# Altium footprint library Transistors.PcbLib: 20 footprints (part 1 of 2)
Each footprint in its own frame and in the unit in brackets; x right, y up, seen from the top. Pads: shape width x height; smd on the part's side, far side on the other; paste and mask are expansions set on the pad; w line width, h text height; cw(c..) or ccw(c..) is an arc to the next point about the centre after c.
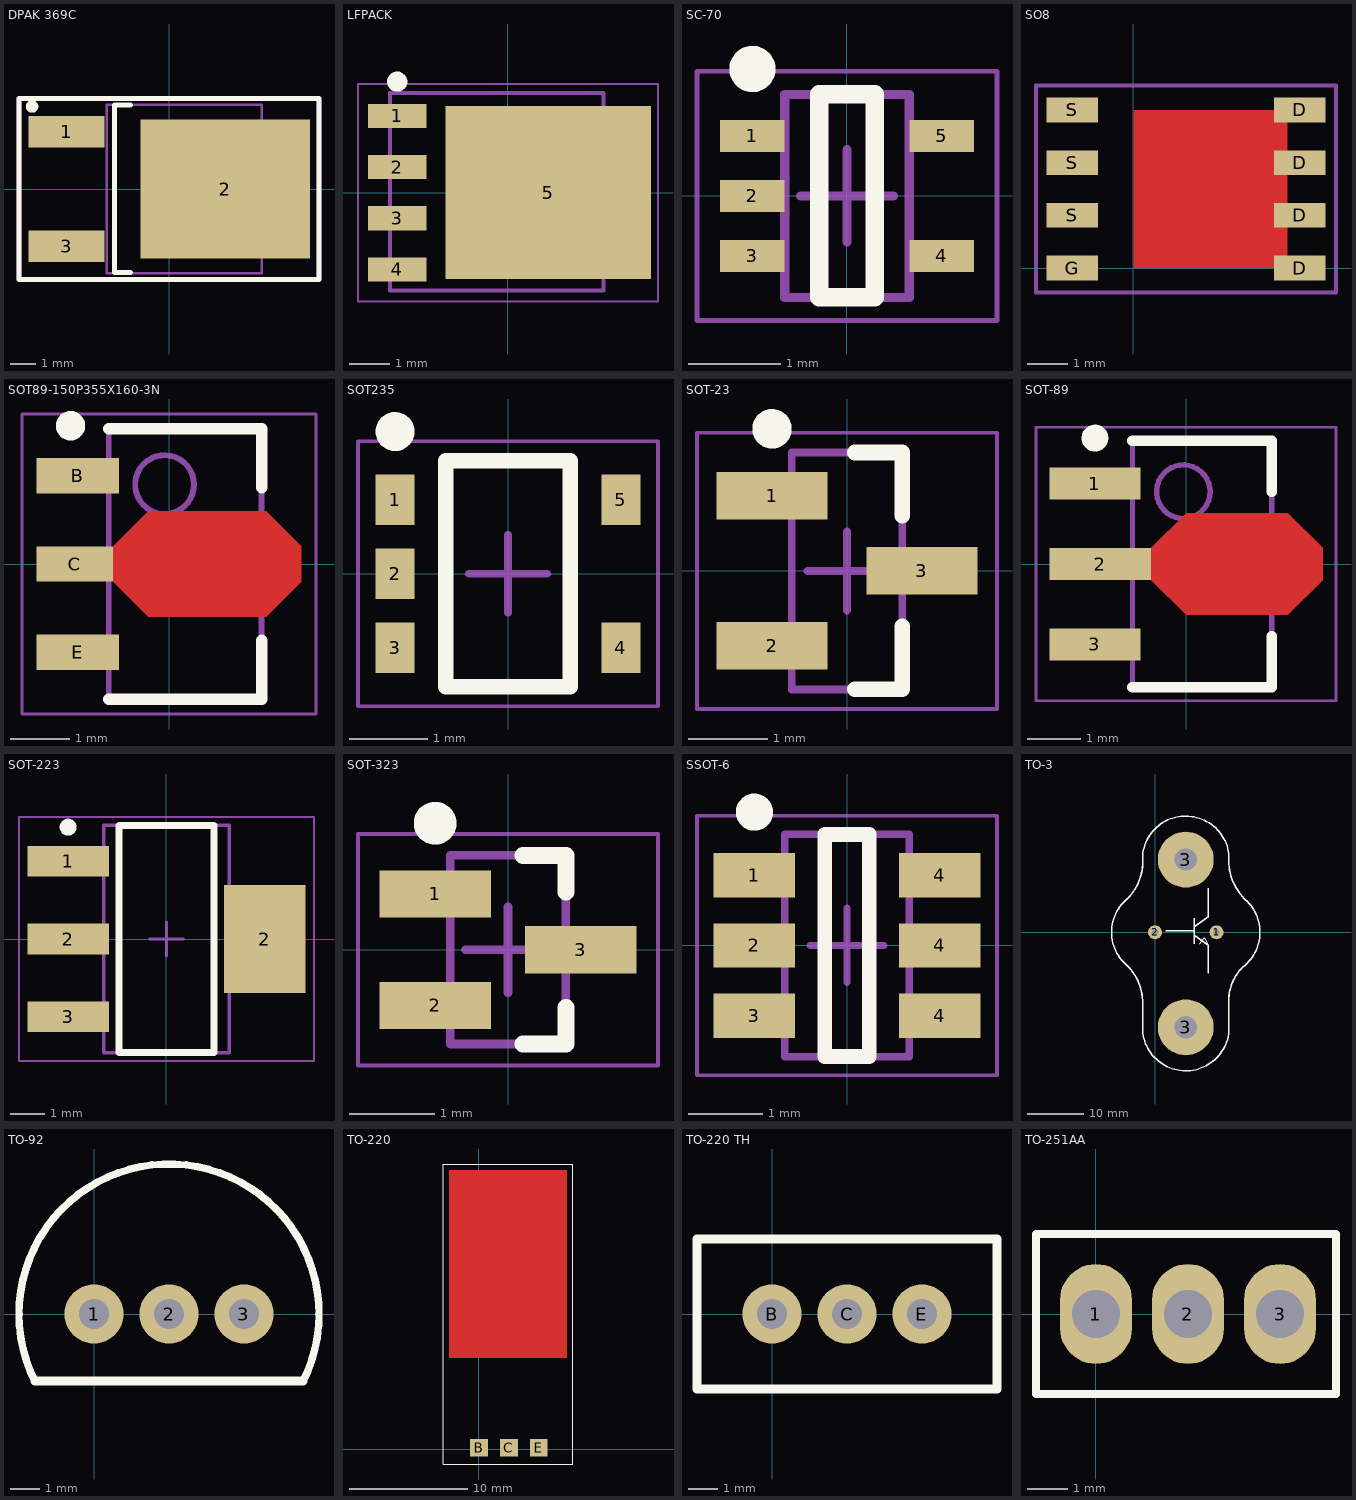
[diagram p0: the footprints below, top view; thin cyan lines are the x and y axes]

## DPAK 369C [mm] "D-PAK, 3-Pads, Body 6,21x6,73mm (max), IPC Medium Density"
height 2.38
pads (3):
  rect 3.05x1.25 smd: 1(-4.1,2.29) 3(-4.1,-2.29)
  rect 6.8x5.55 smd: 2(2.25,0)
Top Overlay:
  circle w0.25: c-5.475,3.3 r0.125
  lines w0.2: -1.55,-3.35 -2.175,-3.35 -2.175,3.35 -1.55,3.35 ; -6,-3.625 -6,3.625 6,3.625 6,-3.625 -6,-3.625
Mechanical 13:
  lines w0.1: -2.5,-3.375 3.72,-3.375 3.72,3.375 -2.5,3.375 -2.5,-3.375
Mechanical 15:
  lines w0.1: -0.5,0 0.5,0 ; 0,-0.5 0,0.5
  lines w0.2: -6,-3.625 6,-3.625 6,3.625 -6,3.625 -6,-3.625
3D body "User Library-DPAK_TO-252AA.step": height 2.37, standoff -0.03, extent -5,-3.367 5.1,3.367

## LFPACK [mm] "TO, 5-Pads, Body 5,75x5,81mm (max), IPC Medium Density"
height 1.1
pads (5):
  rect 1.45x0.6 smd: 1(-2.75,1.905) 2(-2.75,0.635) 3(-2.75,-0.635) 4(-2.75,-1.905)
  rect 5.1x4.3 smd: 5(1,0)
Top Overlay:
  circle w0.25: c-2.75,2.755 r0.125
Mechanical 13:
  lines w0.1: -2.925,-2.425 -2.925,2.475 2.375,2.475 2.375,-2.425 -2.925,-2.425
Mechanical 15:
  lines w0.05: -3.725,-2.7 -3.725,2.7 3.725,2.7 3.725,-2.7 -3.725,-2.7
  lines w0.1: -0.5,0 0.5,0 ; 0,-0.5 0,0.5
3D body "User Library-LFPAK-1.step": height 1.1, standoff 0, extent -2.825,-2.425 3.175,2.475

## SC-70 [mm] "SOT23, 5-Leads, Body 2,00x2,10mm, Pitch 0,65mm, IPC Medium Density"
height 1.1
pads (5):
  rect 0.7x0.35 smd: 1(-1.025,0.65) 2(-1.025,0) 3(-1.025,-0.65) 4(1.025,-0.65) 5(1.025,0.65)
Top Overlay:
  circle w0.25: c-1.025,1.375 r0.125
  lines w0.2: -0.3,-1.1 0.3,-1.1 0.3,1.1 -0.3,1.1 -0.3,-1.1
Mechanical 13:
  lines w0.1: -0.675,-1.1 -0.675,1.1 0.675,1.1 0.675,-1.1 -0.675,-1.1
Mechanical 15:
  lines w0.05: -1.625,-1.35 -1.625,1.35 1.625,1.35 1.625,-1.35 -1.625,-1.35
  lines w0.1: -0.5,0 0.5,0 ; 0,-0.5 0,0.5
3D body: height 1.1, standoff 0.05, extent -0.675,-1.1 0.675,1.1

## SO8 [mm]
pads (8):
  rect 1.27x0.61 smd: D(4.1,0) D(4.1,1.3) D(4.1,2.6) D(4.1,3.9) G(-1.5,0) S(-1.5,1.3) S(-1.5,2.6) S(-1.5,3.9)
Top Layer:
  rectangle: 0,0 3.8,3.9
Mechanical 15:
  lines w0.1: -2.4,-0.6 5,-0.6 5,4.5 -2.4,4.5 -2.4,-0.6
3D body: height 1.1, standoff 0, extent -1.5,-0.1 4.1,4

## SOT89-150P355X160-3N [mm] "SOT89, 3-Leads, Body 4,50x2,50mm, Pitch 1,50mm, Lead Span 3,5mm, IPC Medium Density"
height 1.6
pads (3):
  rect 1.4x0.6 smd: B(-1.55,1.5) E(-1.55,-1.5)
  rect 1.3x0.6 smd: C(-1.6,0)
Top Layer:
  region: -0.95,0.3 -0.35,0.9 1.65,0.9 2.25,0.3 2.25,-0.3 1.65,-0.9 -0.35,-0.9 -0.95,-0.3
Top Overlay:
  circle w0.25: c-1.675,2.35 r0.125
  lines w0.2: -1.025,-2.3 1.575,-2.3 1.575,-1.3 ; -1.025,2.3 1.575,2.3 1.575,1.3
Mechanical 13:
  circle w0.1: c-0.075,1.35 r0.5
  lines w0.1: -1.025,-2.3 1.575,-2.3 1.575,2.3 -1.025,2.3 -1.025,-2.3
Mechanical 15:
  lines w0.05: -2.5,-2.55 2.5,-2.55 2.5,2.55 -2.5,2.55 -2.5,-2.55
  lines w0.1: -0.225,0 0.775,0 ; 0.275,-0.5 0.275,0.5
3D body: height 1.6, standoff 0, extent -1.025,-2.3 1.575,2.3

## SOT235 [mm] "SOT23, 5-Leads, Body 2,92x2,85mm, Pitch 0,95mm, IPC Medium Density"
height 1.1
pads (5):
  rect 0.5x0.65 smd: 1(-1.45,0.95) 2(-1.45,0) 3(-1.45,-0.95) 4(1.45,-0.95) 5(1.45,0.95)
Top Overlay:
  circle w0.25: c-1.45,1.825 r0.125
  lines w0.2: -0.8,-1.45 -0.8,1.45 0.8,1.45 0.8,-1.45 -0.8,-1.45
Mechanical 13:
  lines w0.1: -0.8,-1.46 0.8,-1.46 0.8,1.46 -0.8,1.46 -0.8,-1.46
Mechanical 15:
  lines w0.05: -1.925,-1.7 1.925,-1.7 1.925,1.7 -1.925,1.7 -1.925,-1.7
  lines w0.1: -0.5,0 0.5,0 ; 0,-0.5 0,0.5
3D body: height 1.1, standoff 0.05, extent -0.8,-1.46 0.8,1.46

## SOT-23 [mm] "SOT23, 3-Leads, Body 2,90x2,30mm, Pitch 0,95mm, IPC Medium Density"
height 1.1
pads (3):
  rect 1.4x0.6 smd: 1(-0.95,0.95) 2(-0.95,-0.95) 3(0.95,0)
Top Overlay:
  circle w0.25: c-0.95,1.8 r0.125
  lines w0.2: 0.1,-1.5 0.7,-1.5 0.7,-0.7 ; 0.1,1.5 0.7,1.5 0.7,0.7
Mechanical 13:
  lines w0.1: -0.7,-1.5 0.7,-1.5 0.7,1.5 -0.7,1.5 -0.7,-1.5
Mechanical 15:
  lines w0.05: -1.9,-1.75 1.9,-1.75 1.9,1.75 -1.9,1.75 -1.9,-1.75
  lines w0.1: -0.5,0 0.5,0 ; 0,-0.5 0,0.5
3D body "User Library-SOT95P280X135-3M[SOT23_TO-236AA].step": height 1.3, standoff 0, extent -1.5,-1.5 1.5,1.5

## SOT-89 [mm] "SOT89, 3-Leads, Body 4,49x2,45mm, Pitch 1,50mm, Lead Span 4,3mm, IPC Medium Density"
height 1.6
pads (3):
  rect 1.7x0.6 smd: 1(-1.7,1.5) 3(-1.7,-1.5)
  rect 1.9x0.6 smd: 2(-1.6,0)
Top Layer:
  region: -0.65,0.3 0,0.95 1.9,0.95 2.55,0.3 2.55,-0.3 1.9,-0.95 0,-0.95 -0.65,-0.3
Top Overlay:
  circle w0.25: c-1.7,2.35 r0.125
  lines w0.2: -1,-2.3 1.6,-2.3 1.6,-1.35 ; -1,2.3 1.6,2.3 1.6,1.35
Mechanical 13:
  circle w0.1: c-0.05,1.35 r0.5
  lines w0.1: -1,-2.3 -1,2.3 1.6,2.3 1.6,-2.3 -1,-2.3
Mechanical 15:
  lines w0.05: -2.8,-2.55 -2.8,2.55 2.8,2.55 2.8,-2.55 -2.8,-2.55
  lines w0.1: -0.2,0 0.8,0 ; 0.3,-0.5 0.3,0.5
3D body "User Library-SOT-89-1.step": height 1.51, standoff 0, extent -2.25,-2.25 2.05,2.25

## SOT-223 [mm] "SOT223, 4-Leads, Body 6,50x7,00mm (avg), Pitch 2,30mm, IPC Medium Density"
height 1.8
pads (4):
  rect 2.4x0.9 smd: 1(-2.9,2.3) 2(-2.9,0) 3(-2.9,-2.3)
  rect 2.4x3.2 smd: 2(2.9,0)
Top Overlay:
  circle w0.25: c-2.9,3.3 r0.125
  lines w0.2: -1.4,-3.35 1.4,-3.35 1.4,3.35 -1.4,3.35 -1.4,-3.35
Mechanical 13:
  lines w0.1: -1.85,-3.35 1.85,-3.35 1.85,3.35 -1.85,3.35 -1.85,-3.35
Mechanical 15:
  lines w0.05: -4.35,-3.6 4.35,-3.6 4.35,3.6 -4.35,3.6 -4.35,-3.6
  lines w0.1: -0.5,0 0.5,0 ; 0,-0.5 0,0.5
3D body "User Library-SOT-223-3.step": height 1.6, standoff -0.08, extent -3.48,-3.225 3.48,3.275

## SOT-323 [mm] "SOT23, 3-Leads, Body 2,00x2,10mm, Pitch 0,65mm, IPC Medium Density"
height 1.1
pads (3):
  rect 1.3x0.55 smd: 1(-0.85,0.65) 2(-0.85,-0.65) 3(0.85,0)
Top Overlay:
  circle w0.25: c-0.85,1.475 r0.125
  lines w0.2: 0.175,-1.1 0.675,-1.1 0.675,-0.675 ; 0.175,1.1 0.675,1.1 0.675,0.675
Mechanical 13:
  lines w0.1: -0.675,-1.1 -0.675,1.1 0.675,1.1 0.675,-1.1 -0.675,-1.1
Mechanical 15:
  lines w0.05: -1.75,-1.35 -1.75,1.35 1.75,1.35 1.75,-1.35 -1.75,-1.35
  lines w0.1: -0.5,0 0.5,0 ; 0,-0.5 0,0.5
3D body "User Library-SOT323 (SC70-3)-1.STEP": height 1.1, standoff 0, extent -1.123,-1.1 1.123,1.1

## SSOT-6 [mm] "SOT23, 6-Leads, Body 2,92x2,93mm, Pitch 0,95mm, IPC Medium Density"
height 1.22
pads (6):
  rect 1.1x0.6 smd: 1(-1.25,0.95) 2(-1.25,0) 3(-1.25,-0.95) 4(1.25,-0.95) 4(1.25,0) 4(1.25,0.95)
Top Overlay:
  circle w0.25: c-1.25,1.8 r0.125
  lines w0.2: -0.3,-1.5 -0.3,1.5 0.3,1.5 0.3,-1.5 -0.3,-1.5
Mechanical 13:
  lines w0.1: -0.84,-1.5 0.84,-1.5 0.84,1.5 -0.84,1.5 -0.84,-1.5
Mechanical 15:
  lines w0.05: -2.025,-1.75 2.025,-1.75 2.025,1.75 -2.025,1.75 -2.025,-1.75
  lines w0.1: -0.5,0 0.5,0 ; 0,-0.5 0,0.5
3D body: height 1.22, standoff 0.05, extent -0.84,-1.5 0.84,1.5

## TO-3 [mm]
pads (4):
  round 2.5 hole 1.2: 1(11,0) 2(0,0)
  round 10 hole 4: 3(5.5,-17) 3(5.5,13)
Top Overlay:
  lines w0.042: 8.016,-2.024 8.778,-1.008 9.54,-2.278
  lines w0.254: -4.969,-5.963 cw(c0,0) -4.969,5.963 ; -2.194,-18.026 ccw(c5.5,-17) 13.172,-18.18 ; -2.172,14.18 cw(c5.5,13) 13.194,14.026 ; 1.92,0.262 7,0.262 ; 7,-2.024 7,2.548 ; 7,-0.5 9.54,-2.278 9.54,-7.358 ; 7,1.024 9.54,2.802 9.54,7.882 ; 15.733,-6.152 ccw(c11,0) 15.733,6.152
  lines w0.3: -4.969,-5.963 cw(c-11.669,-12.663) -2.194,-12.663 -2.194,-18.026 ; -4.969,5.963 ccw(c-11.723,12.716) -2.172,12.716 -2.172,14.18 ; 13.172,-18.18 13.172,-12.335 cw(c21.915,-12.335) 15.733,-6.152 ; 13.194,14.026 13.194,12.774 ccw(c22.774,12.774) 16,6

## TO-92 [mm]
pads (3):
  round 2 hole 1: 1(0,0) 2(2.54,0) 3(5.08,0)
Top Overlay:
  lines w0.254: -2.004,-2.272 cw(c2.54,0) 7.084,-2.272
  lines w0.3: -2.004,-2.272 7.084,-2.272

## TO-220 [mm]
pads (3):
  rect 1.5x1.5 smd: B(0.04,0.13) C(2.58,0.13) E(5.12,0.13)
Top Layer:
  rectangle: -2.5,7.75 7.5,23.75
Top Overlay:
  lines w0.1: -3,-1.25 8,-1.25 8,24.25 -3,24.25 -3,-1 -3,-1.25

## TO-220 TH [mm]
pads (3):
  round 2 hole 1: B(0,0) C(2.54,0) E(5.08,0)
Top Overlay:
  lines w0.3: -2.54,-2.54 -2.54,2.54 7.62,2.54 7.62,-2.54 -2.54,-2.54

## TO-251AA [mm]
pads (3):
  oval 1.8x2.5 hole 1.2: 1(0,0) 2(2.3,0) 3(4.6,0)
Top Overlay:
  lines w0.2: -1.5,-2 -1.5,2 6,2 6,-2 -1.5,-2